# EAGLE library part QSE-040-02 (library con-samtec)
0,80mm HI-SPEED SOCKET QSE Serie Source: http://www.samtec.com/ftppub/cpdf/QSE-XXX-01-X-D-XX-FOOTPRINT.pdf http://www.samtec.com/ftppub/pdf/QSE.PDF
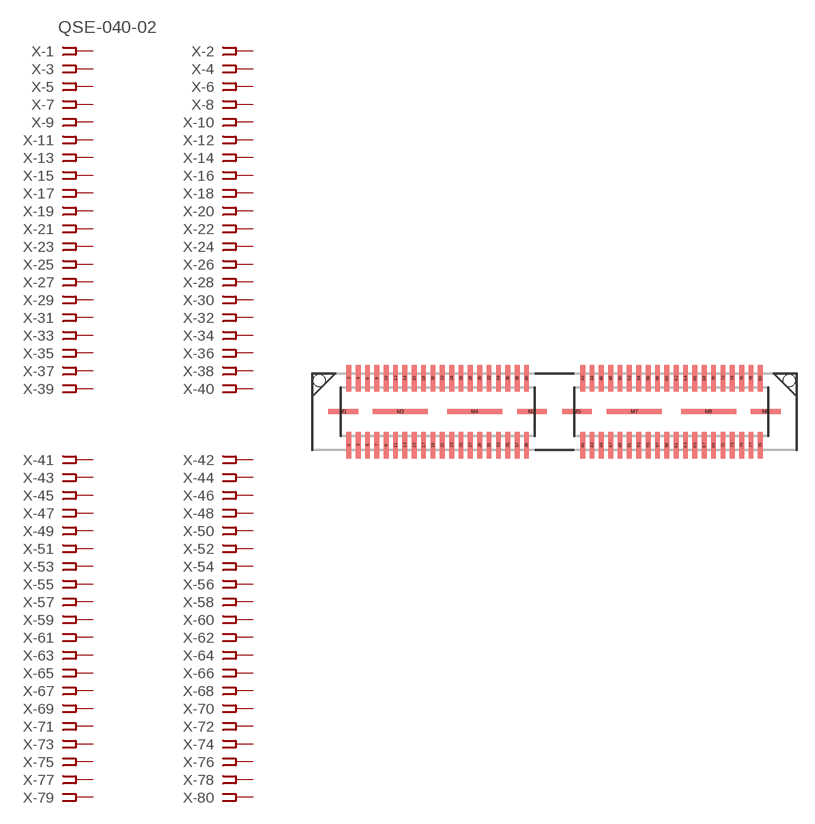
[diagram p2: symbol with the pads of QSE-040-02; footprint QSE-040-02]

Designator prefix X; gates -1=FPINV -2=FPIN -3=FPIN -4=FPIN -5=FPIN -6=FPIN -7=FPIN -8=FPIN -9=FPIN -10=FPIN -11=FPIN -12=FPIN -13=FPIN -14=FPIN -15=FPIN -16=FPIN -17=FPIN -18=FPIN -19=FPIN -20=FPIN -21=FPIN -22=FPIN -23=FPIN -24=FPIN -25=FPIN -26=FPIN -27=FPIN -28=FPIN -29=FPIN -30=FPIN -31=FPIN -32=FPIN -33=FPIN -34=FPIN -35=FPIN -36=FPIN -37=FPIN -38=FPIN -39=FPIN -40=FPIN -41=FPIN -42=FPIN -43=FPIN -44=FPIN -45=FPIN -46=FPIN -47=FPIN -48=FPIN -49=FPIN -50=FPIN -51=FPIN -52=FPIN -53=FPIN -54=FPIN -55=FPIN -56=FPIN -57=FPIN -58=FPIN -59=FPIN -60=FPIN -61=FPIN -62=FPIN -63=FPIN -64=FPIN -65=FPIN -66=FPIN -67=FPIN -68=FPIN -69=FPIN -70=FPIN -71=FPIN -72=FPIN -73=FPIN -74=FPIN -75=FPIN -76=FPIN -77=FPIN -78=FPIN -79=FPIN -80=FPIN

## QSE-040-02  [QSE-040-02]
1  -1:1  pas
2  -2:1  pas
3  -3:1  pas
4  -4:1  pas
5  -5:1  pas
6  -6:1  pas
7  -7:1  pas
8  -8:1  pas
9  -9:1  pas
10  -10:1  pas
11  -11:1  pas
12  -12:1  pas
13  -13:1  pas
14  -14:1  pas
15  -15:1  pas
16  -16:1  pas
17  -17:1  pas
18  -18:1  pas
19  -19:1  pas
20  -20:1  pas
21  -21:1  pas
22  -22:1  pas
23  -23:1  pas
24  -24:1  pas
25  -25:1  pas
26  -26:1  pas
27  -27:1  pas
28  -28:1  pas
29  -29:1  pas
30  -30:1  pas
31  -31:1  pas
32  -32:1  pas
33  -33:1  pas
34  -34:1  pas
35  -35:1  pas
36  -36:1  pas
37  -37:1  pas
38  -38:1  pas
39  -39:1  pas
40  -40:1  pas
41  -41:1  pas
42  -42:1  pas
43  -43:1  pas
44  -44:1  pas
45  -45:1  pas
46  -46:1  pas
47  -47:1  pas
48  -48:1  pas
49  -49:1  pas
50  -50:1  pas
51  -51:1  pas
52  -52:1  pas
53  -53:1  pas
54  -54:1  pas
55  -55:1  pas
56  -56:1  pas
57  -57:1  pas
58  -58:1  pas
59  -59:1  pas
60  -60:1  pas
61  -61:1  pas
62  -62:1  pas
63  -63:1  pas
64  -64:1  pas
65  -65:1  pas
66  -66:1  pas
67  -67:1  pas
68  -68:1  pas
69  -69:1  pas
70  -70:1  pas
71  -71:1  pas
72  -72:1  pas
73  -73:1  pas
74  -74:1  pas
75  -75:1  pas
76  -76:1  pas
77  -77:1  pas
78  -78:1  pas
79  -79:1  pas
80  -80:1  pas

## Footprint QSE-040-02 (pad centres in mm)
0,80mm HI-SPEED SOCKET QSE Serie Source: http://www.samtec.com/ftppub/cpdf/QSE-XXX-01-X-D-XX-FOOTPRINT.pdf http://www.samtec.com/ftppub/pdf/QSE.PDF
smd 0.41 x 2.27: 1 -17.595,-2.86; 2 -17.595,2.87; 3 -16.795,-2.86; 4 -16.795,2.87; 5 -15.995,-2.86; 6 -15.995,2.87; 7 -15.195,-2.86; 8 -15.195,2.87; 9 -14.395,-2.86; 10 -14.395,2.87; 11 -13.595,-2.86; 12 -13.595,2.87; 13 -12.795,-2.86; 14 -12.795,2.87; 15 -11.995,-2.86; 16 -11.995,2.87; 17 -11.195,-2.86; 18 -11.195,2.87; 19 -10.395,-2.86; 20 -10.395,2.87; 21 -9.595,-2.86; 22 -9.595,2.87; 23 -8.795,-2.86; 24 -8.795,2.87; 25 -7.995,-2.86; 26 -7.995,2.87; 27 -7.195,-2.86; 28 -7.195,2.87; 29 -6.395,-2.86; 30 -6.395,2.87; 31 -5.595,-2.86; 32 -5.595,2.87; 33 -4.795,-2.86; 34 -4.795,2.87; 35 -3.995,-2.86; 36 -3.995,2.87; 37 -3.195,-2.86; 38 -3.195,2.87; 39 -2.395,-2.86; 40 -2.395,2.87; 41 2.405,-2.86; 42 2.405,2.87; 43 3.205,-2.86; 44 3.205,2.87; 45 4.005,-2.86; 46 4.005,2.87; 47 4.805,-2.86; 48 4.805,2.87; 49 5.605,-2.86; 50 5.605,2.87; 51 6.405,-2.86; 52 6.405,2.87; 53 7.205,-2.86; 54 7.205,2.87; 55 8.005,-2.86; 56 8.005,2.87; 57 8.805,-2.86; 58 8.805,2.87; 59 9.605,-2.86; 60 9.605,2.87; 61 10.405,-2.86; 62 10.405,2.87; 63 11.205,-2.86; 64 11.205,2.87; 65 12.005,-2.86; 66 12.005,2.87; 67 12.805,-2.86; 68 12.805,2.87; 69 13.605,-2.86; 70 13.605,2.87; 71 14.405,-2.86; 72 14.405,2.87; 73 15.205,-2.86; 74 15.205,2.87; 75 16.005,-2.86; 76 16.005,2.87; 77 16.805,-2.86; 78 16.805,2.87; 79 17.605,-2.86; 80 17.605,2.87
smd 2.54 x 0.43: M1 -18.065,0; M2 -1.935,0; M5 1.935,0; M6 18.065,0
smd 4.7 x 0.43: M3 -13.175,0; M4 -6.825,0; M7 6.825,0; M8 13.175,0
hole 1.02 at -20.13,2.67
hole 1.02 at 20.065,2.67